# EAGLE library part LT3008 (library Sleepwalker)
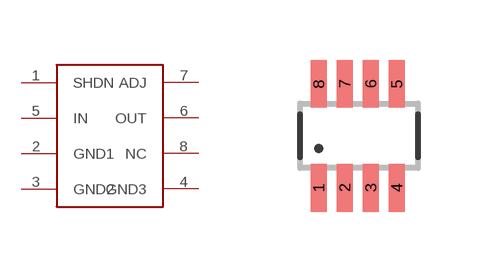
[diagram p1: symbol with the pads of SOT23-8; footprint SOT23-8]

Designator prefix -

## LT3008  [SOT23-8]
1  SHDN
2  GND1
3  GND2
4  GND3
5  IN
6  OUT
7  ADJ
8  NC

## Footprint SOT23-8 (pad centres in mm)
8-Lead SOT23-8 (0.65 mm grid) Small Outline Transistor source: Maxim (www.maxim-ic.com)
smd 0.4 x 1.2: 1 -0.975,-1.3; 2 -0.325,-1.3; 3 0.325,-1.3; 4 0.975,-1.3; 5 0.975,1.3; 6 0.325,1.3; 7 -0.325,1.3; 8 -0.975,1.3